# Altium schematic symbol library rizzler-hall-sensor-board.SchLib: 24 symbols
Pins are listed as number, name and electrical type; pins without a type are passive.

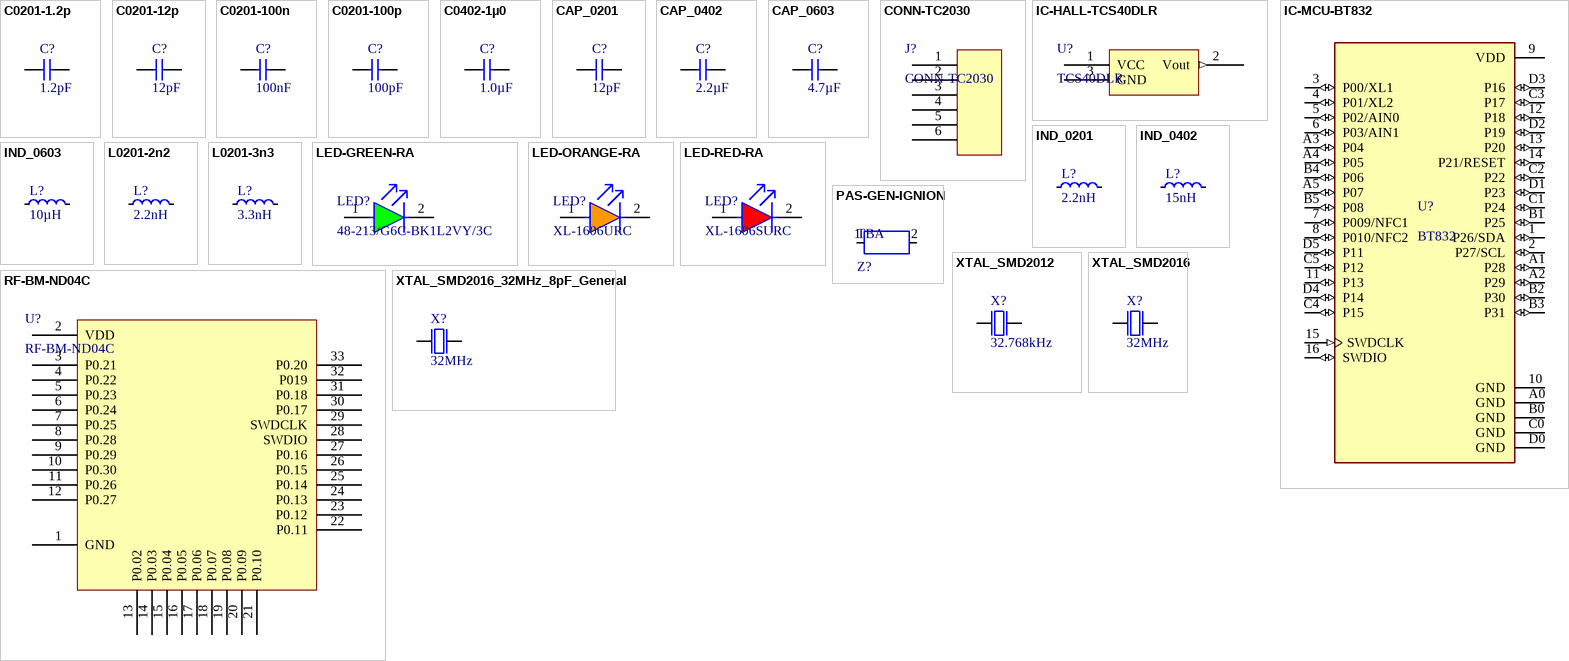
[diagram p0: symbols C0201-1.2p to XTAL_SMD2016_32MHz_8pF_General]

## C0201-1.2p
designator C?, comment 1.2pF
Capacitor, NP0, ±2%; Part Number: C0201-12p; Manufacturer: *; Manufacturer Part Number: *; LatestRevisionDate: 2017-11-09; Pin Count: 2; Publisher: Nordic Semiconductor; Published: 2014-11-13; Value: 1.2pF; Footprint Doc: 0201
footprint CAPC0603X03L_C
pins: 1, 2

## C0201-12p
designator C?, comment 12pF
Capacitor, NP0, ±2%; Part Number: C0201-12p; Manufacturer: *; Manufacturer Part Number: *; LatestRevisionDate: 2017-11-09; Pin Count: 2; Publisher: Nordic Semiconductor; Published: 2014-11-13; Value: 12pF; Footprint Doc: 0201
footprint CAPC0603X03L_C
pins: 1, 2

## C0201-100n
designator C?, comment 100nF
Capacitor, NP0, ±2%; Part Number: C0201-12p; Manufacturer: *; Manufacturer Part Number: *; LatestRevisionDate: 2017-11-09; Pin Count: 2; Publisher: Nordic Semiconductor; Published: 2014-11-13; Value: 100nF; Footprint Doc: 0201
footprint CAPC0603X03L_C
pins: 1, 2

## C0201-100p
designator C?, comment 100pF
Capacitor, NP0, ±2%; Part Number: C0201-12p; Manufacturer: *; Manufacturer Part Number: *; LatestRevisionDate: 2017-11-09; Pin Count: 2; Publisher: Nordic Semiconductor; Published: 2014-11-13; Value: 100pF; Footprint Doc: 0201
footprint CAPC0603X03L_C
pins: 1, 2

## C0402-1µ0
designator C?, comment 1.0µF
Capacitor, X5R, ±20%; Part Number: C0402-2µ2; Manufacturer: *; Manufacturer Part Number: *; LatestRevisionDate: 2006-06-02; Pin Count: 2; Publisher: Nordic Semiconductor; Published: 2009-05-08; Value: 1.0µF; Footprint Doc: 0402
footprint CAPC1005X04L
pins: 1, 2

## CAP_0201
designator C?, comment 12pF
Capacitor, NP0, ±2%; Part Number: C0201-12p; Manufacturer: *; Manufacturer Part Number: *; LatestRevisionDate: 2017-11-09; Pin Count: 2; Publisher: Nordic Semiconductor; Published: 2014-11-13; Value: 12pF; Footprint Doc: 0201
footprint CAPC0603X03L_C
pins: 1, 2

## CAP_0402
designator C?, comment 2.2µF
Capacitor, X5R, ±20%; Part Number: C0402-2µ2; Manufacturer: *; Manufacturer Part Number: *; LatestRevisionDate: 2006-06-02; Pin Count: 2; Publisher: Nordic Semiconductor; Published: 2009-05-08; Value: 2.2µF; Footprint Doc: 0402
footprint CAPC1005X04L
pins: 1, 2

## CAP_0603
designator C?, comment 4.7µF
Capacitor, X5R, ±10%; Part Number: C0603-4µ7; Manufacturer: *; Manufacturer Part Number: *; LatestRevisionDate: 2009-11-23; Pin Count: 2; Publisher: Nordic Semiconductor; Published: 2009-05-08; Value: 4.7µF; Footprint Doc: 0603
footprint CAPC1608X06L
pins: 1, 2

## CONN-TC2030
designator J?
TC2030 PLUG-OF-NAILS CABLE
footprint TC2030-IDC-PLUG-OF-NAILS-TIGHT (6 pin plug of nail connector)
footprint TC2030-IDC-PLUG-OF-NAILS-CLIP (6 pin plug of nail connector)
pins: 1, 2, 3, 4, 5, 6

## IC-HALL-TCS40DLR
designator U?, comment TCS40DLR
Digital-Output Magnetic Sensor (Hall IC). Open drain.
footprint SOT95P245X80-3N (SOT-23F Package 2.9×2.4×0.8mm)
pins: 1 VCC (power), 2 Vout (out), 3 GND (power)

## IC-MCU-BT832
designator U?, comment BT832
BLE 5 Module: Nordic nRF52832 SoC, Cortex M4F with PCB trace antenna; Package: None; Price: None; Availability: Unavailable; MP: BT832; Value: *
footprint BLEMODULE_BT832
pins: 1 P26/SDA (io), 2 P27/SCL (io), 3 P00/XL1 (io), 4 P01/XL2 (io), 5 P02/AIN0 (io), 6 P03/AIN1 (io), 7 P009/NFC1 (io), 8 P010/NFC2 (io), 9 VDD (power), 10 GND (power), 11 P13 (io), 12 P18 (io), 13 P20 (io), 14 P21/RESET (io), 15 SWDCLK (in), 16 SWDIO (io), A0 GND (power), A1 P28 (io), A2 P29 (io), A3 P04 (io), A4 P05 (io), A5 P07 (io), B0 GND (power), B1 P25 (io), B2 P30 (io), B3 P31 (io), B4 P06 (io), B5 P08 (io), C0 GND (power), C1 P24 (io), C2 P22 (io), C3 P17 (io), C4 P15 (io), C5 P12 (io), D0 GND (power), D1 P23 (io), D2 P19 (io), D3 P16 (io), D4 P14 (io), D5 P11 (io)

## IND_0201
designator L?, comment 2.2nH
High frequency chip inductor ±5%; Part Number: L0201-2n2; Manufacturer: *; Manufacturer Part Number: *; LatestRevisionDate: 2013-04-10; Pin Count: 2; Publisher: Nordic Semiconductor; Published: 2013-04-10; Value: 2.2nH; Footprint Doc: 0201
footprint INDC0603X03L_C
pins: 1, 2

## IND_0402
designator L?, comment 15nH
High frequency chip inductor ±10%; Part Number: L0402-15n; LatestRevisionDate: 2012-09-19; Pin Count: 2; Publisher: Nordic Semiconductor; Published: 2010-07-12; Value: 15nH; Footprint Doc: 0402
footprint INDC1005X04L
pins: 1, 2

## IND_0603
designator L?, comment 10µH
Chip inductor, IDC,min = 50 mA, ±20%; Part Number: L0603-10µ; LatestRevisionDate: 2012-09-19; Pin Count: 2; Publisher: Nordic Semiconductor; Published: 2010-02-24; Value: 10µH; Footprint Doc: 0603
footprint INDC1608X06L
pins: 1, 2

## L0201-2n2
designator L?, comment 2.2nH
High frequency chip inductor ±5%; Part Number: L0201-2n2; Manufacturer: *; Manufacturer Part Number: *; LatestRevisionDate: 2013-04-10; Pin Count: 2; Publisher: Nordic Semiconductor; Published: 2013-04-10; Value: 2.2nH; Footprint Doc: 0201
footprint INDC0603X03L_C
pins: 1, 2

## L0201-3n3
designator L?, comment 3.3nH
High frequency chip inductor ±5%; Part Number: L0201-2n2; Manufacturer: *; Manufacturer Part Number: *; LatestRevisionDate: 2013-04-10; Pin Count: 2; Publisher: Nordic Semiconductor; Published: 2013-04-10; Value: 3.3nH; Footprint Doc: 0201
footprint INDC0603X03L_C
pins: 1, 2

## LED-GREEN-RA
designator LED?, comment 48-213/G6C-BK1L2VY/3C
Green LED 90° mount
footprint LED-RA-1803 (Right angle LED 1803 metric footprint)
pins: 1 A, 2 C

## LED-ORANGE-RA
designator LED?, comment XL-1606URC
Orange LED 90° mount
footprint LED-RA-1803 (Right angle LED 1803 metric footprint)
footprint LED-RA-1606 (Right angle LED 1.1x1.7mm)
pins: 1 A, 2 C

## LED-RED-RA
designator LED?, comment XL-1606SURC
Red LED 90° mount
footprint LED-RA-1803 (Right angle LED 1803 metric footprint)
footprint LED-RA-1606 (Right angle LED 1.1x1.7mm)
pins: 1 A, 2 C

## PAS-GEN-IGNION
designator Z?, comment TBA
Generic passive for Ignion recommended matching component
footprint PASSIVE-IGNION-MATCHING (Pads for matching components as recommended by Ignion)
footprint CAPC1005X04L
pins: 1, 2

## RF-BM-ND04C
designator U?
nRF52810-based Bluetooth 5.0 Low Energy module with internal 32 MHz and 32.768 kHz crystals.
footprint RF-BM-ND04 (RF-Star 15 x 24.8mm module with dual internal crystal.)
pins: 1 GND, 2 VDD, 3 P0.21, 4 P0.22, 5 P0.23, 6 P0.24, 7 P0.25, 8 P0.28, 9 P0.29, 10 P0.30, 11 P0.26, 12 P0.27, 13 P0.02, 14 P0.03, 15 P0.04, 16 P0.05, 17 P0.06, 18 P0.07, 19 P0.08, 20 P0.09, 21 P0.10, 22 P0.11, 23 P0.12, 24 P0.13, 25 P0.14, 26 P0.15, 27 P0.16, 28 SWDIO, 29 SWDCLK, 30 P0.17, 31 P0.18, 32 P019, 33 P0.20

## XTAL_SMD2012
designator X?, comment 32.768kHz
XTAL SMD 2012, 32.768kHz, Cl=9pF, Total Tol: ±50ppm; Part Number: XTAL_SMD2012_32.768kHz_9pF_General; Manufacturer: *; Manufacturer Part Number: *; LatestRevisionDate: 2017-01-11; Pin Count: 2; Publisher: Nordic Semiconductor; Published: 2016-08-19; Value: 32.768kHz; Footprint Doc: XTAL_2012
footprint XTAL_2012
pins: 1 inp, 2 out

## XTAL_SMD2016
designator X?, comment 32MHz
XTAL SMD 2016, 32MHz, Cl=8pF, Total Tol: ±40ppm; Part Number: XTAL_SMD2016_32MHz_8pF_General; Manufacturer: *; Manufacturer Part Number: *; LatestRevisionDate: 2016-08-19; Pin Count: 4; Publisher: Nordic Semiconductor; Published: 2016-08-19; Value: 32MHz; Footprint Doc: XTAL_2016
footprint BT-XTAL_2016
pins: 1 inp, 2 GND hidden to GND, 3 out, 4 GND hidden to GND

## XTAL_SMD2016_32MHz_8pF_General
designator X?, comment 32MHz
XTAL SMD 2016, 32MHz, Cl=8pF, Total Tol: ±40ppm; Part Number: XTAL_SMD2016_32MHz_8pF_General; Manufacturer: *; Manufacturer Part Number: *; LatestRevisionDate: 2016-08-19; Pin Count: 4; Publisher: Nordic Semiconductor; Published: 2016-08-19; Value: 32MHz; Footprint Doc: XTAL_2016
footprint BT-XTAL_2016
pins: 1 inp, 2 GND hidden to GND, 3 out, 4 GND hidden to GND